# Altium footprint library NX1610SA32768000kHz.PcbLib: 1 footprints
Each footprint in its own frame and in the unit in brackets; x right, y up, seen from the top. Pads: shape width x height; smd on the part's side, far side on the other; paste and mask are expansions set on the pad; w line width, h text height; cw(c..) or ccw(c..) is an arc to the next point about the centre after c.
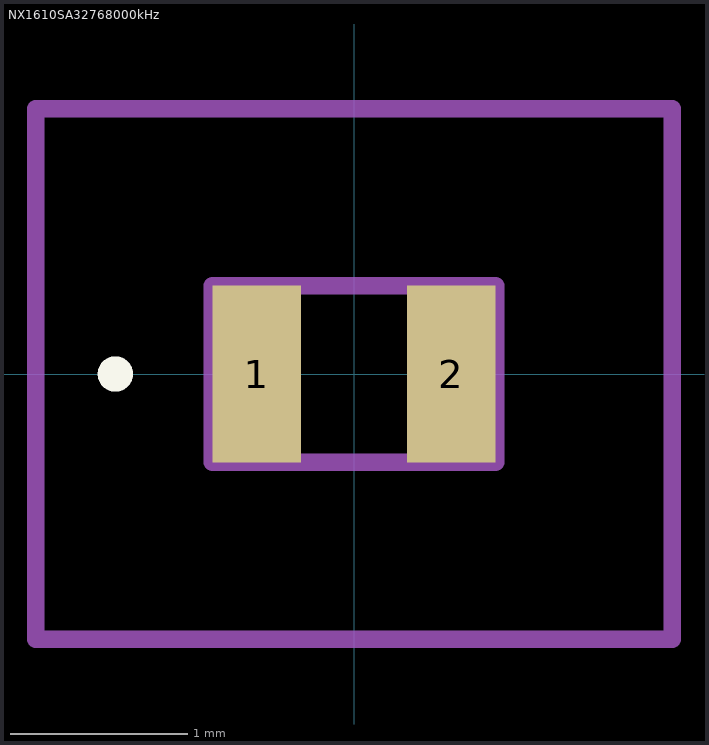
[diagram p0: the footprint, top view; thin cyan lines are the x and y axes]

## NX1610SA32768000kHz [mm]
pads (2):
  rect 0.5x1 smd: 1(-0.55,0) 2(0.55,0)
Top Overlay:
  lines w0.1: -1.4,0 -1.4,0 ; -1.4,0 ccw(c-1.35,0) -1.3,0 ; -1.4,0 cw(c-1.35,0) -1.3,0 ; -1.3,0 -1.3,0
Mechanical 15:
  lines w0.1: -0.8,-0.5 0.8,-0.5 0.8,0.5 -0.8,0.5 -0.8,-0.5
Mechanical 20:
  lines w0.1: -1.8,-1.5 1.8,-1.5 1.8,1.5 -1.8,1.5 -1.8,-1.5